# Altium footprint library PCB - MISC - PushButton_P16-TF.PCBLIB: 1 footprints
Each footprint in its own frame and in the unit in brackets; x right, y up, seen from the top. Pads: shape width x height; smd on the part's side, far side on the other; paste and mask are expansions set on the pad; w line width, h text height; cw(c..) or ccw(c..) is an arc to the next point about the centre after c.
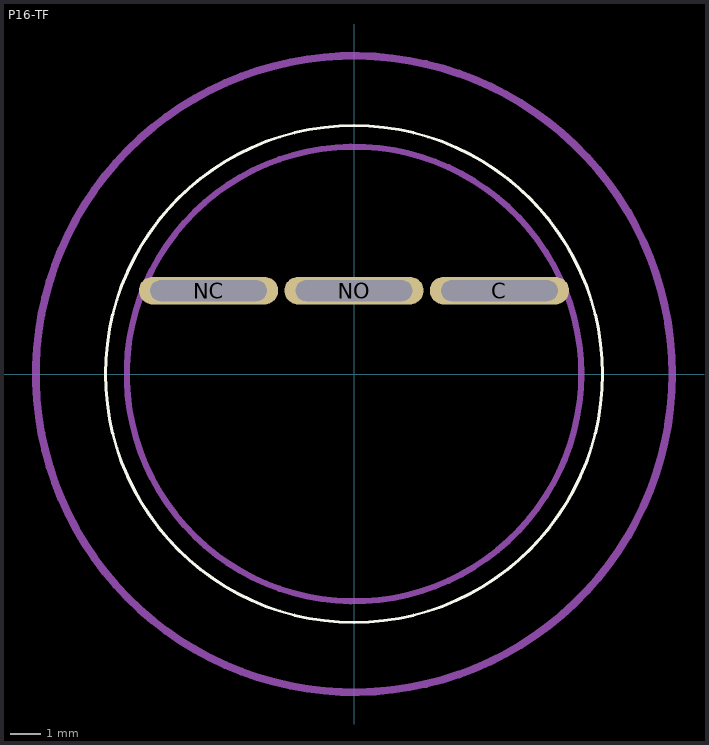
[diagram p0: the footprint, top view; thin cyan lines are the x and y axes]

## P16-TF [mm]
pads (3):
  oval 4.6x0.916 hole 0.687 slot 3.844 at 0 deg: C(4.8,2.75) NC(-4.8,2.75) NO(0,2.75)
Top Overlay:
  circle w0.1: c0,0 r8.2
Top Assembly:
  circle w0.2: c0,0 r7.5
Top Courtyard:
  circle w0.254: c0,0 r10.5
Top Designator:
  text ".Designator" at -2.1,-5 h1
Top Value:
  text ".Comment" at -2.1,-4.1 h1
3D body "P16-TF-RF.stp": height 5.25, standoff -32.7, extent -11.12,-9.25 10.82,9.75